# Altium footprint library Footprints.PcbLib: 111 footprints (part 5 of 7)
Each footprint in its own frame and in the unit in brackets; x right, y up, seen from the top. Pads: shape width x height; smd on the part's side, far side on the other; paste and mask are expansions set on the pad; w line width, h text height; cw(c..) or ccw(c..) is an arc to the next point about the centre after c.
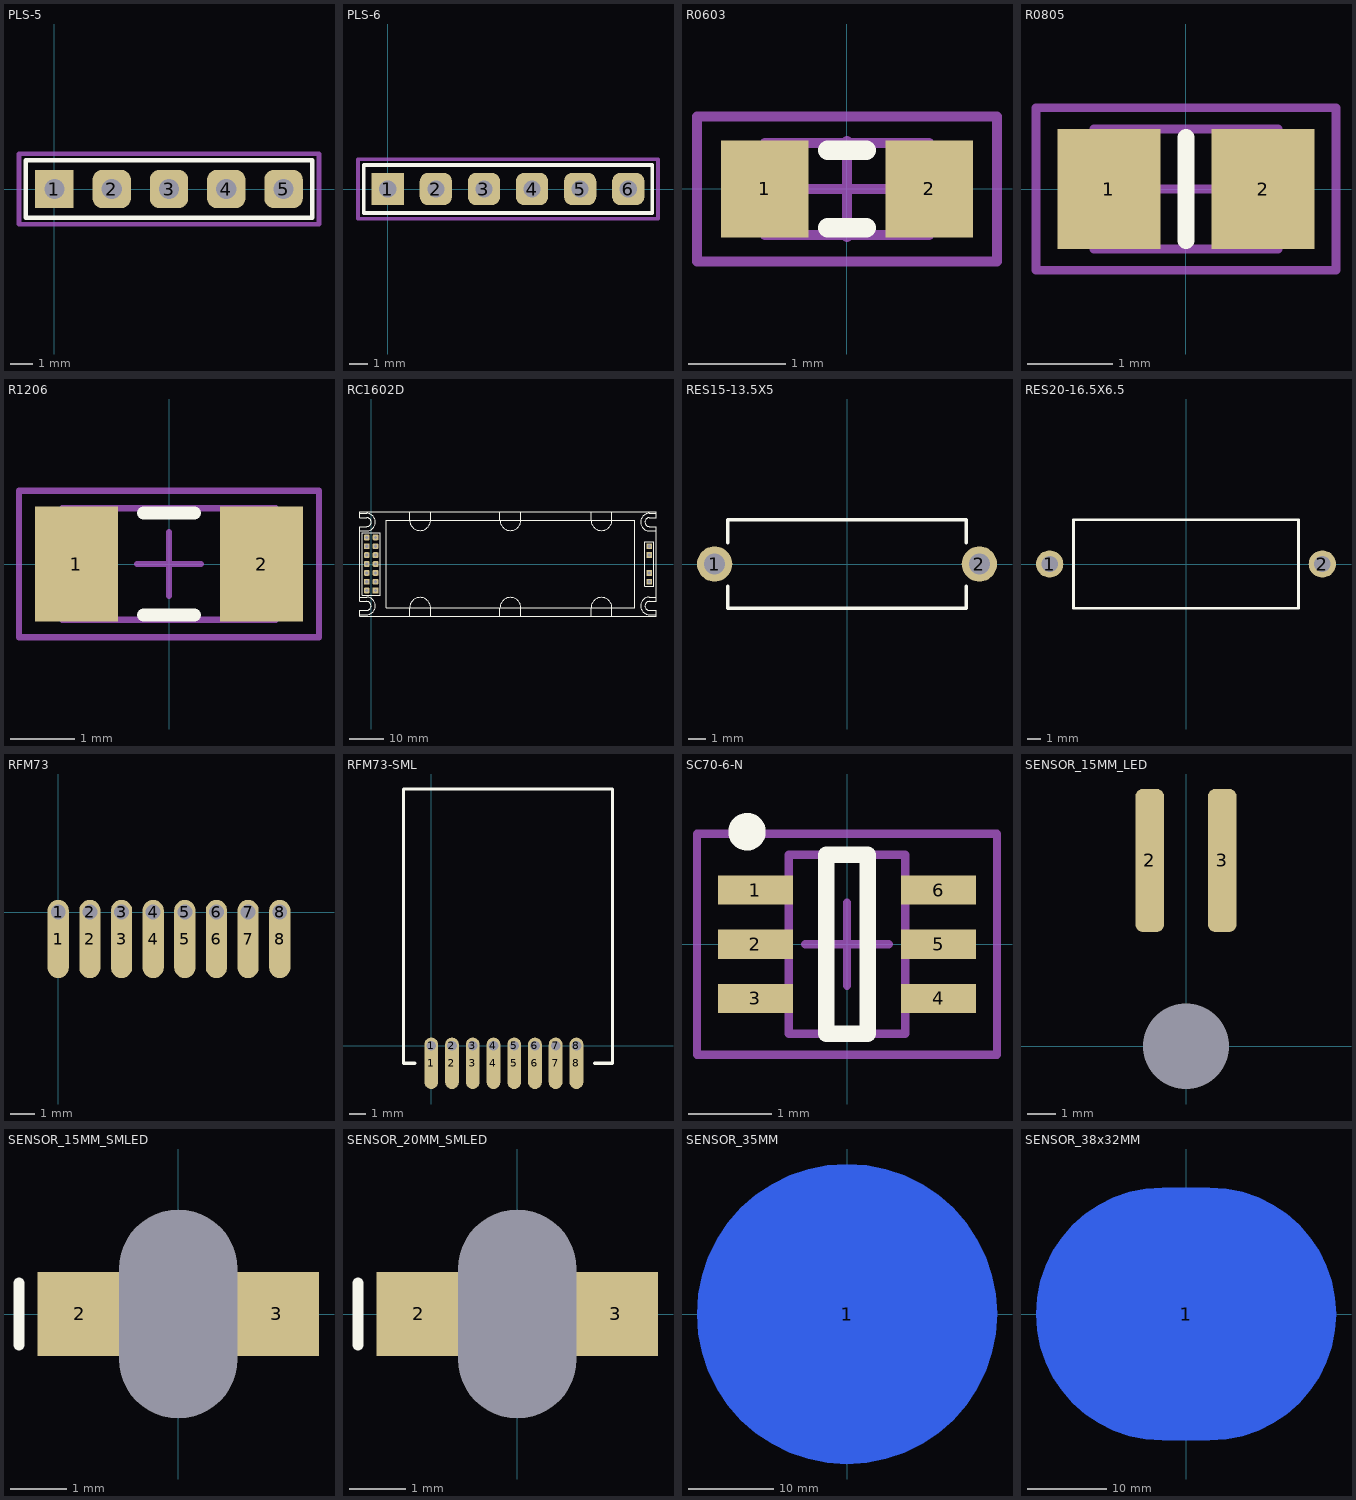
[diagram p4: the footprints below, top view; thin cyan lines are the x and y axes]

## PLS-5 [mm] "PLS-6; Pitch 2.54"
height 8.54
pads (5):
  rect 1.7x1.7 hole 0.9: 1(0,0)
  rrect50% 1.7x1.7 hole 0.9: 2(2.54,0) 3(5.08,0) 4(7.62,0) 5(10.16,0)
Top Overlay:
  lines w0.2: -1.27,-1.27 11.43,-1.27 11.43,1.27 -1.27,1.27 -1.27,-1.27
Mechanical 3:
  lines w0.2: -1.57,-1.57 11.73,-1.57 11.73,1.57 -1.57,1.57 -1.57,-1.57
3D body: height 2.54, standoff 0, extent -1.27,-1.27 11.43,1.27
3D body: height 8.54, standoff -3, extent -0.319,-0.319 0.319,0.319
3D body: height 8.54, standoff -3, extent 2.221,-0.319 2.859,0.319
3D body: height 8.54, standoff -3, extent 4.761,-0.319 5.399,0.319
3D body: height 8.54, standoff -3, extent 7.301,-0.319 7.939,0.319
3D body: height 8.54, standoff -3, extent 9.841,-0.319 10.479,0.319

## PLS-6 [mm] "PLS-6; Pitch 2.54"
height 8.54
pads (6):
  rect 1.7x1.7 hole 0.9: 1(0,0)
  rrect50% 1.7x1.7 hole 0.9: 2(2.54,0) 3(5.08,0) 4(7.62,0) 5(10.16,0) 6(12.7,0)
Top Overlay:
  lines w0.2: -1.27,-1.27 -1.27,1.27 13.97,1.27 13.97,-1.27 -1.27,-1.27
Mechanical 3:
  lines w0.2: -1.57,-1.57 -1.57,1.57 14.27,1.57 14.27,-1.57 -1.57,-1.57
3D body: height 8.54, standoff -3, extent 12.381,-0.319 13.019,0.319
3D body: height 8.54, standoff -3, extent 9.841,-0.319 10.479,0.319
3D body: height 8.54, standoff -3, extent 7.301,-0.319 7.939,0.319
3D body: height 8.54, standoff -3, extent 4.761,-0.319 5.399,0.319
3D body: height 8.54, standoff -3, extent 2.221,-0.319 2.859,0.319
3D body: height 8.54, standoff -3, extent -0.319,-0.319 0.319,0.319
3D body: height 2.54, standoff 0, extent -1.27,-1.27 13.97,1.27

## R0603 [mm] "Chip Resistor, Body 1.6x0.8mm, IPC Medium Density"
height 0.6
pads (2):
  rect 0.9x1 smd: 1(-0.85,0) 2(0.85,0)
Top Overlay:
  lines w0.2: -0.2,-0.4 0.2,-0.4 ; -0.2,0.4 0.2,0.4
Mechanical 1:
  lines w0.1: -0.85,-0.475 0.85,-0.475 0.85,0.475 -0.85,0.475 -0.85,-0.475
Mechanical 3:
  lines w0.1: -0.5,0 0.5,0 ; 0,-0.5 0,0.5 ; -1.55,-0.75 1.55,-0.75 1.55,0.75 -1.55,0.75 -1.55,-0.75
3D body: height 0.6, standoff 0, extent -0.85,-0.475 0.85,0.475

## R0805 [mm] "Chip Resistor, Body 2.0x1.3mm, IPC Medium Density"
height 0.65
pads (2):
  rect 1.2x1.4 smd: 1(-0.9,0) 2(0.9,0)
Top Overlay:
  lines w0.2: 0,-0.6 0,0.6
Mechanical 1:
  lines w0.1: -1.075,-0.7 -1.075,0.7 1.075,0.7 1.075,-0.7 -1.075,-0.7
Mechanical 3:
  lines w0.1: -0.5,0 0.5,0 ; 0,-0.5 0,0.5 ; -1.75,-0.95 -1.75,0.95 1.75,0.95 1.75,-0.95 -1.75,-0.95
3D body: height 0.65, standoff 0, extent -1.075,-0.7 1.075,0.7

## R1206 [mm] "Chip Resistor, Body 3.2x1.6mm, IPC Medium Density"
height 0.71
pads (2):
  rect 1.3x1.8 smd: 1(-1.45,0) 2(1.45,0)
Top Overlay:
  lines w0.2: -0.4,-0.8 0.4,-0.8 ; -0.4,0.8 0.4,0.8
Mechanical 1:
  lines w0.1: -1.675,-0.875 -1.675,0.875 1.675,0.875 1.675,-0.875 -1.675,-0.875
Mechanical 3:
  lines w0.1: -0.5,0 0.5,0 ; 0,-0.5 0,0.5 ; -2.35,-1.15 -2.35,1.15 2.35,1.15 2.35,-1.15 -2.35,-1.15
3D body: height 0.71, standoff 0, extent -1.675,-0.875 1.675,0.875

## RC1602D [mm] "LCD Display"
height 13.2
pads (18):
  rect 1.7x1.7 hole 0.9: 1(1.27,-7.62) 15(79.73,-5.08) 16(79.73,-2.54) 17(79.73,2.54) 18(79.73,5.08)
  rrect50% 1.7x1.7 hole 0.9: 2(-1.27,-7.62) 3(1.27,-5.08) 4(-1.27,-5.08) 5(1.27,-2.54) 6(-1.27,-2.54) 7(1.27,0) 8(-1.27,0) 9(1.27,2.54) 10(-1.27,2.54) 11(1.27,5.08) 12(-1.27,5.08) 13(1.27,7.62) 14(-1.27,7.62)
Top Overlay:
  lines w0.2: -3.27,-14.5 -1.27,-14.5 ccw(c-1.27,-12) -1.27,-9.5 -3.27,-9.5 ; -3.27,9.5 -1.27,9.5 ccw(c-1.27,12) -1.27,14.5 -3.27,14.5 ; -1.27,10.75 -3.27,10.75 -3.27,-10.75 -1.27,-10.75 cw(c-1.27,-12) -1.27,-13.25 -3.27,-13.25 -3.27,-15 81.73,-15 81.73,-13.25 79.73,-13.25 cw(c79.73,-12) 79.73,-10.75 81.73,-10.75 81.73,10.75 79.73,10.75 cw(c79.73,12) 79.73,13.25 81.73,13.25 81.73,15 -3.27,15 -3.27,13.25 -1.25,13.25 cw(c-1.25,12) -1.25,10.75 ; 11.03,-15 11.03,-12.6 cw(c14.03,-12.6) 17.03,-12.6 17.03,-15 ; 11.03,15 11.03,12.6 ccw(c14.03,12.6) 17.03,12.6 17.03,15 ; 36.93,-15 36.93,-12.6 cw(c39.93,-12.6) 42.93,-12.6 42.93,-15 ; 36.93,15 36.93,12.6 ccw(c39.93,12.6) 42.93,12.6 42.93,15 ; 63.03,-15 63.03,-12.6 cw(c66.03,-12.6) 69.03,-12.6 69.03,-15 ; 63.03,15 63.03,12.6 ccw(c66.03,12.6) 69.03,12.6 69.03,15 ; 81.73,-14.5 79.73,-14.5 cw(c79.73,-12) 79.73,-9.5 81.73,-9.5 ; 81.73,9.5 79.73,9.5 cw(c79.73,12) 79.73,14.5 81.73,14.5 ; -2.54,-8.89 -2.54,8.89 2.54,8.89 2.54,-8.89 -2.54,-8.89 ; 4.38,-12.6 4.38,12.6 75.58,12.6 75.58,-12.6 4.38,-12.6 ; 78.46,-6.35 78.46,6.35 81,6.35 81,-6.35 78.46,-6.35
3D body: height 2.54, standoff 0, extent 11.03,-15 17.03,-9.6
3D body: height 13.2, standoff 4.14, extent 4.38,-12.6 75.58,12.6
3D body: height 2.54, standoff 0, extent 78.46,-6.35 81,6.35
3D body: height 4.14, standoff 0.89, extent -3.27,-15 81.73,15.03
3D body: height 5.54, standoff -1.7, extent -1.589,2.221 -0.951,2.859
3D body: height 5.54, standoff -1.7, extent 0.951,2.221 1.589,2.859
3D body: height 5.54, standoff -1.7, extent -1.589,-0.319 -0.951,0.319
3D body: height 5.54, standoff -1.7, extent 0.951,-0.319 1.589,0.319
3D body: height 5.54, standoff -1.7, extent -1.589,-2.859 -0.951,-2.221
3D body: height 5.54, standoff -1.7, extent 0.951,-2.859 1.589,-2.221
3D body: height 5.54, standoff -1.7, extent 0.951,-5.399 1.589,-4.761
3D body: height 5.54, standoff -1.7, extent -1.589,-5.399 -0.951,-4.761
3D body: height 2.54, standoff 0, extent -2.54,-8.89 2.54,8.89
3D body: height 5.54, standoff -1.7, extent 0.951,4.761 1.589,5.399
3D body: height 5.54, standoff -1.7, extent -1.589,4.761 -0.951,5.399
3D body: height 5.54, standoff -1.7, extent -1.589,-7.939 -0.951,-7.301
3D body: height 5.54, standoff -1.7, extent 0.951,-7.939 1.589,-7.301
3D body: height 5.54, standoff -1.7, extent -1.589,7.301 -0.951,7.939
3D body: height 5.54, standoff -1.7, extent 0.951,7.301 1.589,7.939
3D body: height 5.54, standoff -1.7, extent 79.411,4.761 80.049,5.399
3D body: height 5.54, standoff -1.7, extent 79.411,2.221 80.049,2.859
3D body: height 5.54, standoff -1.7, extent 79.411,-2.859 80.049,-2.221
3D body: height 5.54, standoff -1.7, extent 79.411,-5.399 80.049,-4.761
3D body: height 2.54, standoff 0, extent 36.93,-15 42.93,-9.6
3D body: height 2.54, standoff 0, extent 63.03,-15 69.03,-9.6
3D body: height 2.54, standoff 0, extent 11.03,9.6 17.03,15
3D body: height 2.54, standoff 0, extent 36.93,9.6 42.93,15
3D body: height 2.54, standoff 0, extent 63.03,9.6 69.03,15

## RES15-13.5X5 [mm] "Resistor, Axial; Body 13.5 x 5 mm (LxDia. max), Lead Dia. 0.85 mm (max)"
height 5
pads (2):
  round 2 hole 1.2: 1(-7.5,0) 2(7.5,0)
Top Overlay:
  lines w0.2: -6.75,-1.25 -6.75,-2.5 6.75,-2.5 6.75,-1.25 ; -6.75,1.2 -6.75,2.5 6.75,2.5 6.75,1.2
3D body: height 4.42, standoff 3.57, extent 5.75,-0.424 7.5,0.424
3D body: height 4.42, standoff 3.57, extent -7.5,-0.424 -5.75,0.424
3D body: height 6.48, standoff 1.5, extent -6,-2.5 6,2.49

## RES20-16.5X6.5 [mm] "Resistor, Axial; Body 16.5 x 6.5 mm (LxDia. max), Lead Dia. 0.85 mm (max)"
height 6.5
pads (2):
  round 2 hole 1.2: 1(-10,0) 2(10,0)
Top Overlay:
  lines w0.2: -8.25,-3.25 8.25,-3.25 8.25,3.25 -8.25,3.25 -8.25,-3.25
3D body: height 7.22, standoff 0.75, extent -8.25,-3.25 8.25,3.237
3D body: height 4.42, standoff 3.57, extent -10,-0.425 -8.25,0.423
3D body: height 4.42, standoff 3.57, extent 8.25,-0.425 10,0.423

## RFM73 [mm] "2.4GHz GFSK Transceiver"
height 7
pads (16):
  oval 0.85x3.15 smd: 1(0,-1.075) 2(1.27,-1.075) 3(2.54,-1.075) 4(3.81,-1.075) 5(5.08,-1.075) 6(6.35,-1.075) 7(7.62,-1.075) 8(8.89,-1.075)
  oval 0.85x1 hole 0.6: 1(0,0) 2(1.27,0) 3(2.54,0) 4(3.81,0) 5(5.08,0) 6(6.35,0) 7(7.62,0) 8(8.89,0)
3D body: height 6.4, standoff -1.5, extent -0.198,-0.2 0.2,0.2
3D body: height 6.4, standoff -1.5, extent 1.072,-0.2 1.47,0.2
3D body: height 6.4, standoff -1.5, extent 2.342,-0.2 2.74,0.2
3D body: height 6.4, standoff -1.5, extent 3.612,-0.2 4.01,0.2
3D body: height 6.4, standoff -1.5, extent 4.882,-0.2 5.28,0.2
3D body: height 6.4, standoff -1.5, extent 6.152,-0.2 6.55,0.2
3D body: height 6.4, standoff -1.5, extent 7.422,-0.2 7.82,0.2
3D body: height 6.4, standoff -1.5, extent 8.692,-0.199 9.09,0.2
3D body: height 7, standoff 4, extent -1.7,-1.075 11.1,15.725

## RFM73-SML [mm] "2.4GHz GFSK Transceiver"
height 3
pads (16):
  oval 0.85x3.15 smd: 1(0,-1.075) 2(1.27,-1.075) 3(2.54,-1.075) 4(3.81,-1.075) 5(5.08,-1.075) 6(6.35,-1.075) 7(7.62,-1.075) 8(8.89,-1.075)
  oval 0.85x1 hole 0.6: 1(0,0) 2(1.27,0) 3(2.54,0) 4(3.81,0) 5(5.08,0) 6(6.35,0) 7(7.62,0) 8(8.89,0)
Top Overlay:
  lines w0.2: -1,-1.075 -1.7,-1.075 -1.7,15.725 11.1,15.725 11.1,-1.075 10,-1.075
3D body: height 3, standoff 0, extent -1.7,-1.075 11.1,15.725

## SC70-6-N [mm] "SC70-6, 6-Leads, Body 2.15x1.40mm, Pitch 0.65mm, Lead Span 2.4mm, IPC Medium Density"
height 1.45
pads (6):
  rect 0.9x0.35 smd: 1(-1.1,0.65) 2(-1.1,0) 3(-1.1,-0.65) 4(1.1,-0.65) 5(1.1,0) 6(1.1,0.65)
Top Overlay:
  circle w0.25: c-1.2,1.35 r0.1
  lines w0.2: -0.25,-1.075 -0.25,1.075 0.25,1.075 0.25,-1.075 -0.25,-1.075
Mechanical 13:
  lines w0.1: -0.7,-1.075 0.7,-1.075 0.7,1.075 -0.7,1.075 -0.7,-1.075
Mechanical 15:
  lines w0.1: -0.5,0 0.5,0 ; 0,-0.5 0,0.5 ; -1.8,-1.325 1.8,-1.325 1.8,1.325 -1.8,1.325 -1.8,-1.325
3D body: height 1.45, standoff 0, extent -0.7,-1.075 0.7,1.075

## SENSOR_15MM_LED [mm]
pads (3):
  round 0 / inner round 0 / far side round 15 hole 3 unplated: 1(0,0)
  rrect50% 1x5 smd: 2(-1.27,6.5) 3(1.27,6.5)
3D body: height 2, standoff -1, extent -1.484,-1.493 1.5,1.494

## SENSOR_15MM_SMLED [mm]
height 1.1
pads (3):
  round 0 / inner round 0 / far side round 15 hole 2.1 slot 3.7 at 90 deg unplated: 1(0,0)
  rect 1.5x1.5 smd: 2(-1.75,0) 3(1.75,0)
Top Overlay:
  lines w0.2: -2.83,-0.55 -2.83,0.55
3D body: height 1.1, standoff 0, extent -1.6,-0.8 1.6,0.8

## SENSOR_20MM_SMLED [mm]
height 1.1
pads (3):
  round 0 / inner round 0 / far side round 20 hole 2.1 slot 3.7 at 90 deg unplated: 1(0,0)
  rect 1.5x1.5 smd: 2(-1.75,0) 3(1.75,0)
Top Overlay:
  lines w0.2: -2.83,-0.55 -2.83,0.55
3D body: height 1.1, standoff 0, extent -1.6,-0.8 1.6,0.8

## SENSOR_35MM [mm]
pads (1):
  round 35 smd far side: 1(0,0)
3D body: height 1, standoff 0, extent -17.362,-17.465 17.5,17.466

## SENSOR_38x32MM [mm]
pads (1):
  oval 38x32 smd far side: 1(0,0)
3D body: height 1, standoff 0, extent -15.874,-15.968 16,15.969